# EAGLE library part CONN_CAN_NODE (library psas_eagle_library)
PSAS standard CAN node connedtor. (8 pin right angle plug + two strain relief blocks) (The origin of this part should be placed exactly 0.230 inches in from the board edge.)
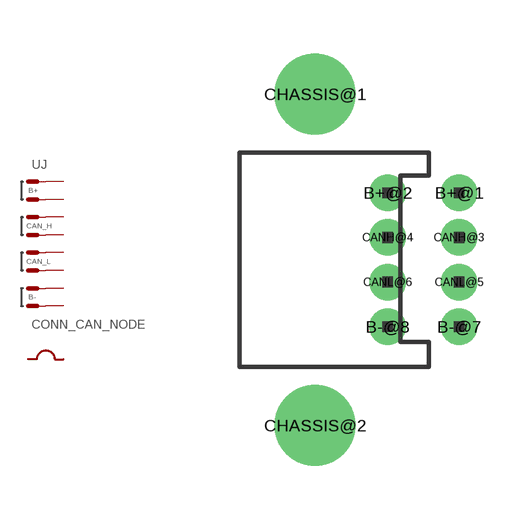
[diagram p25: symbol with the pads of CAN_NODE; footprint CAN_NODE]

Designator prefix -; gates S=JUMPER J=CONN_CAN

## CONN_CAN_NODE  [CAN_NODE]
B+@1  J:B+1  pas
B+@2  J:B+2  pas
B-@7  J:B-1  pas
B-@8  J:B-2  pas
CANH@3  J:CAN_H1  pas
CANH@4  J:CAN_H2  pas
CANL@5  J:CAN_L1  pas
CANL@6  J:CAN_L2  pas
CHASSIS@1  S:1  pas
CHASSIS@2  S:2  pas

## Footprint CAN_NODE (pad centres in mm)
PSAS CAN node connector
drill 0.508 pad 1.016 round: B+@1 2,1.875; B+@2 0,1.875; B-@7 2,-1.875; B-@8 0,-1.875; CANH@3 2,0.625; CANH@4 0,0.625; CANL@5 2,-0.625; CANL@6 0,-0.625
drill 1.511 round: CHASSIS@1 -2.032,4.636; CHASSIS@2 -2.032,-4.636